# Altium footprint library CAP_CAN_TH_10mmLS20mmD.PcbLib: 1 footprints
Each footprint in its own frame and in the unit in brackets; x right, y up, seen from the top. Pads: shape width x height; smd on the part's side, far side on the other; paste and mask are expansions set on the pad; w line width, h text height; cw(c..) or ccw(c..) is an arc to the next point about the centre after c.
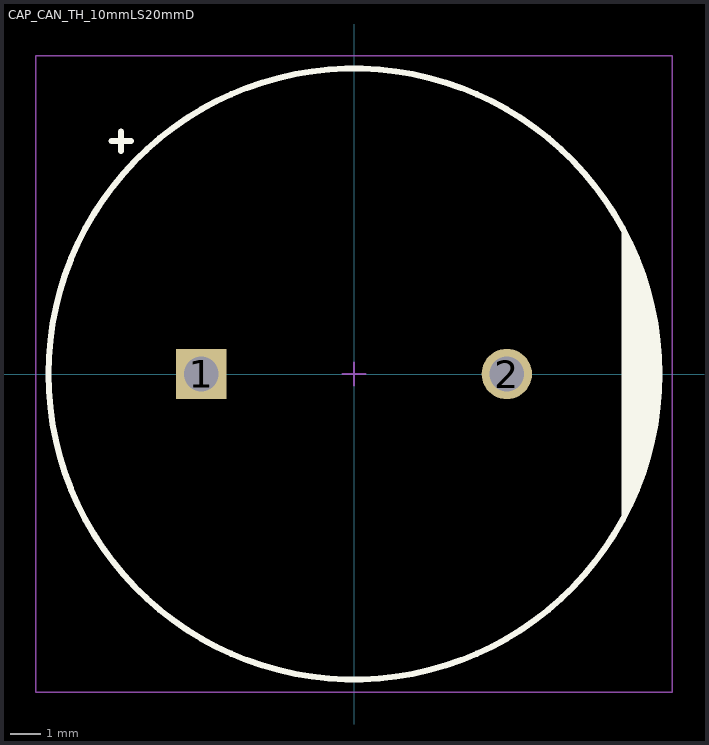
[diagram p0: the footprint, top view; thin cyan lines are the x and y axes]

## CAP_CAN_TH_10mmLS20mmD [mil]
pads (2):
  rect 65x65 hole 45: 1(-196.85,0)
  round 65 hole 45: 2(196.85,0)
Top Overlay:
  circle w7.87: c0,0 r393.7
  region: 345,185 345,-185 360,-155 375,-115 385,-75 393.7,0 385,80 370,135
  lines w7.87: -312.5,300 -287.5,300 ; -300,287.5 -300,312.5
Mechanical 15:
  lines w1.97: -15,0 15,0 ; 0,-15 0,15 ; -410,-410 -410,410 410,410 410,-410 -410,-410